# EAGLE library part BMIV3 (library ruark2)
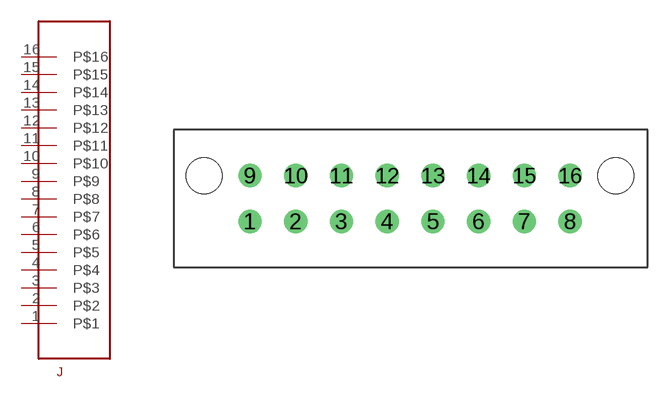
[diagram p14: symbol with the pads of BMIV16; footprint BMIV16]

Designator prefix J

## BMIV3  [BMIV16]
1  P$1
2  P$2
3  P$3
4  P$4
5  P$5
6  P$6
7  P$7
8  P$8
9  P$9
10  P$10
11  P$11
12  P$12
13  P$13
14  P$14
15  P$15
16  P$16

## Footprint BMIV16 (pad centres in mm)
drill 1.02: 1 0,0; 2 3,0; 3 6,0; 4 9,0; 5 12,0; 6 15,0; 7 18,0; 8 21,0; 9 0,3; 10 3,3; 11 6,3; 12 9,3; 13 12,3; 14 15,3; 15 18,3; 16 21,3
hole 2.36 at 24,3
hole 2.36 at -3,3